# EAGLE library part IS62WV102416BLL-* (library memory-issi-asynsram)
1024k x 16 high- speed low power CMOS static RAM 25ns access time 3.6V power supply
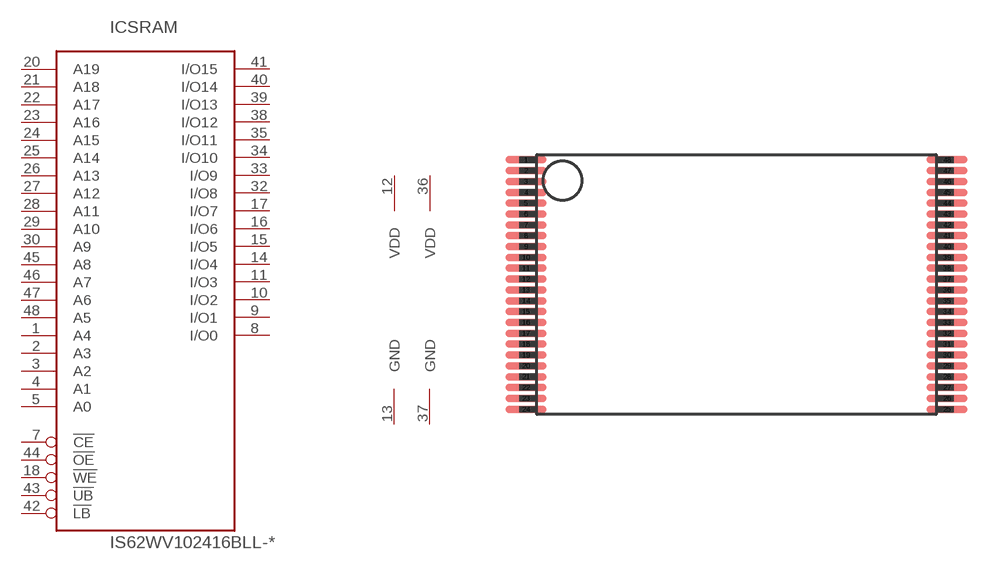
[diagram p151: symbol with the pads of TSOP-I-48-12X40MM; footprint TSOP-I-48-12X40MM]

Designator prefix IC; gates SRAM=1024KX16_TYP1 PWR=PWR_VDD2_GND2

## IS62WV102416BLL-25T  [TSOP-I-48-12X40MM]
1  SRAM:A4  in
2  SRAM:A3  in
3  SRAM:A2  in
4  SRAM:A1  in
5  SRAM:A0  in
7  SRAM:!CE  in
8  SRAM:I/O0  hiz
9  SRAM:I/O1  hiz
10  SRAM:I/O2  hiz
11  SRAM:I/O3  hiz
12  PWR:VDD  pwr
13  PWR:GND  pwr
14  SRAM:I/O4  hiz
15  SRAM:I/O5  hiz
16  SRAM:I/O6  hiz
17  SRAM:I/O7  hiz
18  SRAM:!WE  in
20  SRAM:A19  in
21  SRAM:A18  in
22  SRAM:A17  in
23  SRAM:A16  in
24  SRAM:A15  in
25  SRAM:A14  in
26  SRAM:A13  in
27  SRAM:A12  in
28  SRAM:A11  in
29  SRAM:A10  in
30  SRAM:A9  in
32  SRAM:I/O8  hiz
33  SRAM:I/O9  hiz
34  SRAM:I/O10  hiz
35  SRAM:I/O11  hiz
36  PWR:VDD  pwr
37  PWR:GND  pwr
38  SRAM:I/O12  hiz
39  SRAM:I/O13  hiz
40  SRAM:I/O14  hiz
41  SRAM:I/O15  hiz
42  SRAM:!LB  in
43  SRAM:!UB  in
44  SRAM:!OE  in
45  SRAM:A8  in
46  SRAM:A7  in
47  SRAM:A6  in
48  SRAM:A5  in

## Footprint TSOP-I-48-12X40MM (pad centres in mm)
TSOP-I-48 48-pin thin small-outline package, Typ I
smd 1.9 x 0.34: 1 -9.7,5.75; 2 -9.7,5.25; 3 -9.7,4.75; 4 -9.7,4.25; 5 -9.7,3.75; 6 -9.7,3.25; 7 -9.7,2.75; 8 -9.7,2.25; 9 -9.7,1.75; 10 -9.7,1.25; 11 -9.7,0.75; 12 -9.7,0.25; 13 -9.7,-0.25; 14 -9.7,-0.75; 15 -9.7,-1.25; 16 -9.7,-1.75; 17 -9.7,-2.25; 18 -9.7,-2.75; 19 -9.7,-3.25; 20 -9.7,-3.75; 21 -9.7,-4.25; 22 -9.7,-4.75; 23 -9.7,-5.25; 24 -9.7,-5.75; 25 9.7,-5.75; 26 9.7,-5.25; 27 9.7,-4.75; 28 9.7,-4.25; 29 9.7,-3.75; 30 9.7,-3.25; 31 9.7,-2.75; 32 9.7,-2.25; 33 9.7,-1.75; 34 9.7,-1.25; 35 9.7,-0.75; 36 9.7,-0.25; 37 9.7,0.25; 38 9.7,0.75; 39 9.7,1.25; 40 9.7,1.75; 41 9.7,2.25; 42 9.7,2.75; 43 9.7,3.25; 44 9.7,3.75; 45 9.7,4.25; 46 9.7,4.75; 47 9.7,5.25; 48 9.7,5.75